# Altium schematic symbol library LDFPVR.SchLib: 1 symbol
Pins are listed as number, name and electrical type; pins without a type are passive.

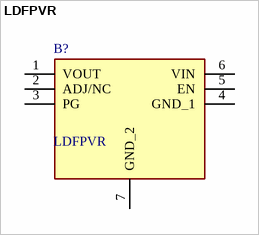
[diagram p0: symbol LDFPVR]

## LDFPVR
designator B?
STMicroelectronics LDFPVR, LDO Voltage Regulator, Adjustable 1A, 0.8  12 V +/-1.5%, 6-Pin DFN; Geometry.Height: 1mm; Mouser Part Number: 511-LDFPVR; Mouser Price/Stock: https://www.mouser.co.uk/ProductDetail/STMicroelectronics/LDFPVR?qs=xLDY6iXSiQbeQdnd6kJYEg%3D%3D; Manufacturer_Name: STMicroelectronics; Manufacturer_Part_Number: LDFPVR; Datasheet Link: http://www.st.com/content/ccc/resource/technical/document/datasheet/3e/64/32/d3/73/04/4a/70/DM00099995.pdf/files/DM00099995.pdf/jcr:content/translations/en.DM00099995.pdf
footprint SON65P200X200X100-7N-D
pins: 1 VOUT, 2 ADJ/NC, 3 PG, 4 GND_1, 5 EN, 6 VIN, 7 GND_2